# Altium footprint library htssop_14_p65_500x440x120_l63x25_t231x246.PcbLib: 1 footprints
Each footprint in its own frame and in the unit in brackets; x right, y up, seen from the top. Pads: shape width x height; smd on the part's side, far side on the other; paste and mask are expansions set on the pad; w line width, h text height; cw(c..) or ccw(c..) is an arc to the next point about the centre after c.
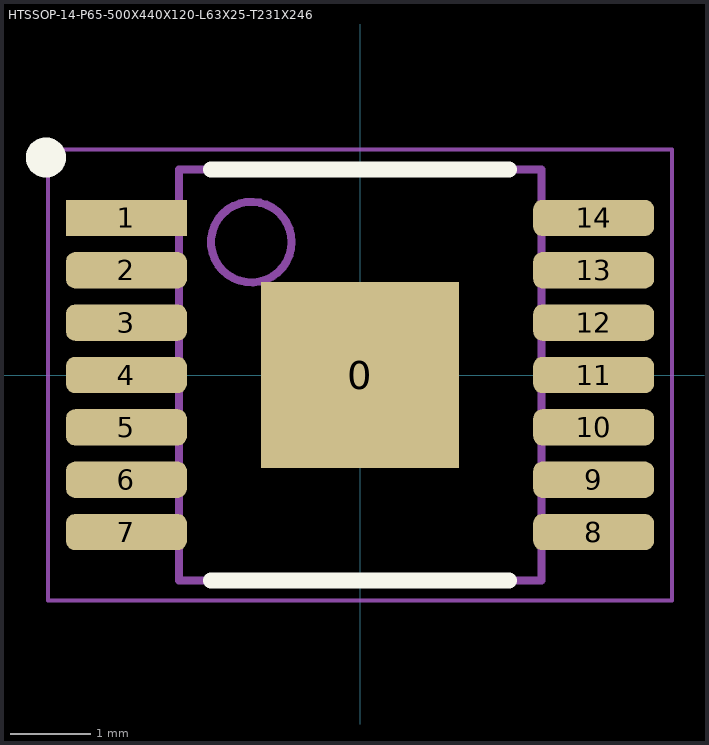
[diagram p0: the footprint, top view; thin cyan lines are the x and y axes]

## HTSSOP-14-P65-500X440X120-L63X25-T231X246 [mm] "HTSSOP, 14-Leads, Body 5,00x4,40mm, Pitch 0,65mm, Thermal Pad 2,31x2,46mm, IPC Medium Density"
height 1.2
pads (15):
  rect 2.46x2.31 smd: 0(0,0)
  rect 1.5x0.45 smd: 1(-2.9,1.95)
  rrect50% 1.5x0.45 smd: 2(-2.9,1.3) 3(-2.9,0.65) 4(-2.9,0) 5(-2.9,-0.65) 6(-2.9,-1.3) 7(-2.9,-1.95) 8(2.9,-1.95) 9(2.9,-1.3) 10(2.9,-0.65) 11(2.9,0) 12(2.9,0.65) 13(2.9,1.3) 14(2.9,1.95)
Top Overlay:
  circle w0.25: c-3.9,2.7 r0.125
  lines w0.2: -1.85,-2.55 1.85,-2.55 ; -1.85,2.55 1.85,2.55
Top Comment:
  text ".Comment" at 1,3.5 h1.2
Top Designator:
  text ".Designator" at -0.5,3.5 h1.2
Top Component Outline:
  circle w0.1: c-1.35,1.65 r0.5
  lines w0.1: -2.25,-2.55 2.25,-2.55 2.25,2.55 -2.25,2.55 -2.25,-2.55
Top Courtyard (Mech15):
  lines w0.05: -3.875,-2.8 3.875,-2.8 3.875,2.8 -3.875,2.8 -3.875,-2.8
  lines w0.1: -0.5,0 0.5,0 ; 0,-0.5 0,0.5
3D body "HTTSOP-14.STEP": height 1.2, standoff 0, extent -3.2,-2.5 3.2,2.5